# Altium footprint library TMMH-125-XX-XX-D-SM.PcbLib: 1 footprints
Each footprint in its own frame and in the unit in brackets; x right, y up, seen from the top. Pads: shape width x height; smd on the part's side, far side on the other; paste and mask are expansions set on the pad; w line width, h text height; cw(c..) or ccw(c..) is an arc to the next point about the centre after c.
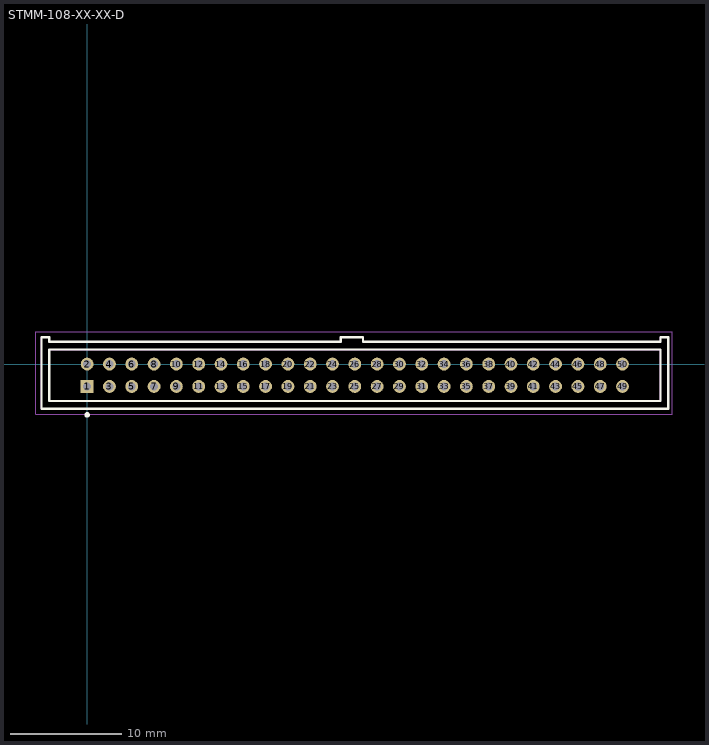
[diagram p0: the footprint, top view; thin cyan lines are the x and y axes]

## STMM-108-XX-XX-D [mm] "2.00mm pitch, 50 pin, header; shrouded"
height 4.8
pads (50):
  rect 1.15x1.15 / inner round 1.15 / far side rect 1.15x1.15 hole 0.7 mask+0: 1(0,-2)
  round 1.15 hole 0.7 mask+0: 2(0,0) 3(2,-2) 4(2,0) 5(4,-2) 6(4,0) 7(6,-2) 8(6,0) 9(8,-2) 10(8,0) 11(10,-2) 12(10,0) 13(12,-2) 14(12,0) 15(14,-2) 16(14,0) 17(16,-2) 18(16,0) 19(18,-2) 20(18,0) 21(20,-2) 22(20,0) 23(22,-2) 24(22,0) 25(24,-2) 26(24,0) 27(26,-2) 28(26,0) 29(28,-2) 30(28,0) 31(30,-2) 32(30,0) 33(32,-2) 34(32,0) 35(34,-2) 36(34,0) 37(36,-2) 38(36,0) 39(38,-2) 40(38,0) 41(40,-2) 42(40,0) 43(42,-2) 44(42,0) 45(44,-2) 46(44,0) 47(46,-2) 48(46,0) 49(48,-2) 50(48,0)
Top Overlay:
  circle w0.25: c0,-4.55 r0.125
  lines w0.2: 22.637,2 -3.4,2 -3.4,2.4 -4.1,2.4 -4.1,-4 52.1,-4 52.1,2.4 51.4,2.4 51.4,2 ; 22.733,2 22.733,2.413 24.733,2.413 24.733,2 51.308,2 ; -3.4,-3.3 -3.4,1.3 51.4,1.3 51.4,-3.3 -3.4,-3.3
Mechanical 12:
  lines w0.001: 6,2 -3.4,2 -3.4,2.4 -4.1,2.4 -4.1,-4 18.1,-4 ; 22.733,2 22.733,2.4 24.733,2.4 24.733,2.013 34.133,2.013 ; 51.4,2 51.4,2.4 52.1,2.4 52.1,-4
Mechanical 13:
  lines w0.1: 6,2 -3.4,2 -3.4,2.4 -4.1,2.4 -4.1,-4 52.07,-4 ; 22.733,2 22.733,2.413 24.733,2.413 24.733,2 34.133,2 ; 51.4,-3.3 51.4,1.3 -3.4,1.3 -3.4,-3.3 51.435,-3.3 ; 51.4,2 51.4,2.4 52.1,2.4 52.1,-4
  text ".Designator" at -1.397,4.318 h1.52
Mechanical 15:
  lines w0.05: -4.6,-4.5 -4.6,2.9 52.451,2.9 52.451,-4.5 -4.6,-4.5